# Altium schematic symbol library AON7262E.SchLib: 1 symbol
Pins are listed as number, name and electrical type; pins without a type are passive.

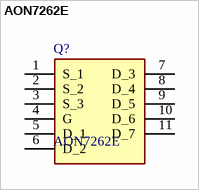
[diagram p0: symbol AON7262E]

## AON7262E
designator Q?
N-Channel 60 V 21A (Ta), 34A (Tc) 5W (Ta), 43W (Tc) Surface Mount 8-DFN-EP (3x3); Manufacturer_Name: Alpha & Omega Semiconductors; Geometry.Height: 0.9mm; TME Electronic Components Part Number: *; TME Electronic Components Price/Stock: *; Manufacturer_Part_Number: AON7262E; Datasheet Link: https://www.aosmd.com/sites/default/files/res/datasheets/AON7262E.pdf
footprint AON7262E
pins: 1 S_1, 2 S_2, 3 S_3, 4 G, 5 D_1, 6 D_2, 7 D_3, 8 D_4, 9 D_5, 10 D_6, 11 D_7